# Altium footprint library SC-89.PcbLib: 1 footprints
Each footprint in its own frame and in the unit in brackets; x right, y up, seen from the top. Pads: shape width x height; smd on the part's side, far side on the other; paste and mask are expansions set on the pad; w line width, h text height; cw(c..) or ccw(c..) is an arc to the next point about the centre after c.
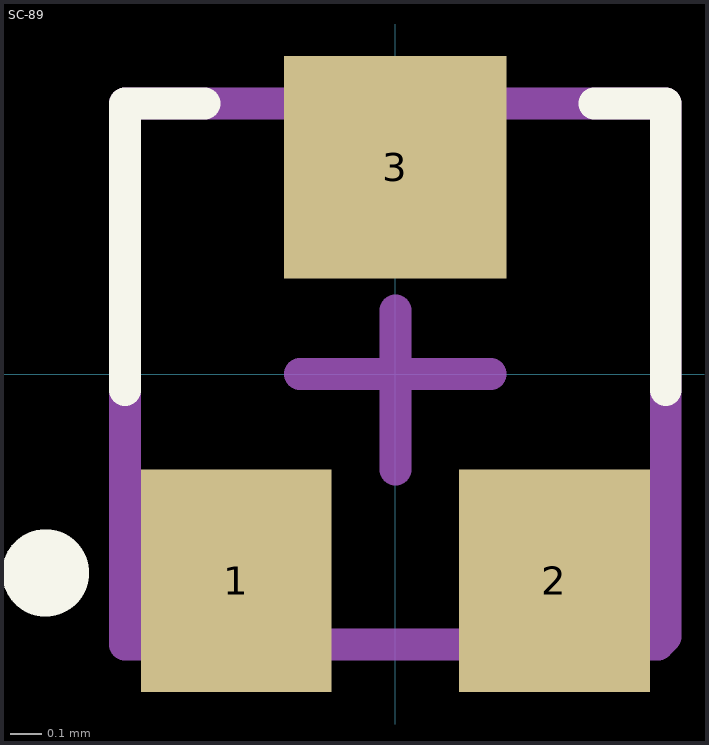
[diagram p0: the footprint, top view; thin cyan lines are the x and y axes]

## SC-89 [mm]
pads (3):
  rect 0.6x0.7 smd mask+0: 1(-0.5,-0.65) 2(0.5,-0.65)
  rect 0.7x0.7 smd mask+0: 3(0,0.65)
Top Overlay:
  circle w0.254: c-1.1,-0.625 r0.01
  lines w0.1: -0.85,-0.05 -0.85,0.6 -0.85,0.85 -0.6,0.85 ; 0.625,0.85 0.85,0.85 0.85,0.625 0.85,-0.05
Mechanical 13:
  lines w0.1: -0.85,-0.85 -0.85,0.85 0.85,0.85 0.85,-0.825 0.825,-0.85 -0.85,-0.85
Mechanical 15:
  lines w0.1: -0.1,0 -0.3,0 0,0 ; 0,0 0,-0.3 0,0 ; 0,0 0.3,0 0,0 ; 0,0 0,0.2 0,0
3D body "SC-89.step": height 0.79, standoff 0.01, extent -0.85,-0.85 0.85,0.85